# Altium footprint library Lib Marius.PcbLib: 393 footprints (part 1 of 25)
Each footprint in its own frame and in the unit in brackets; x right, y up, seen from the top. Pads: shape width x height; smd on the part's side, far side on the other; paste and mask are expansions set on the pad; w line width, h text height; cw(c..) or ccw(c..) is an arc to the next point about the centre after c.
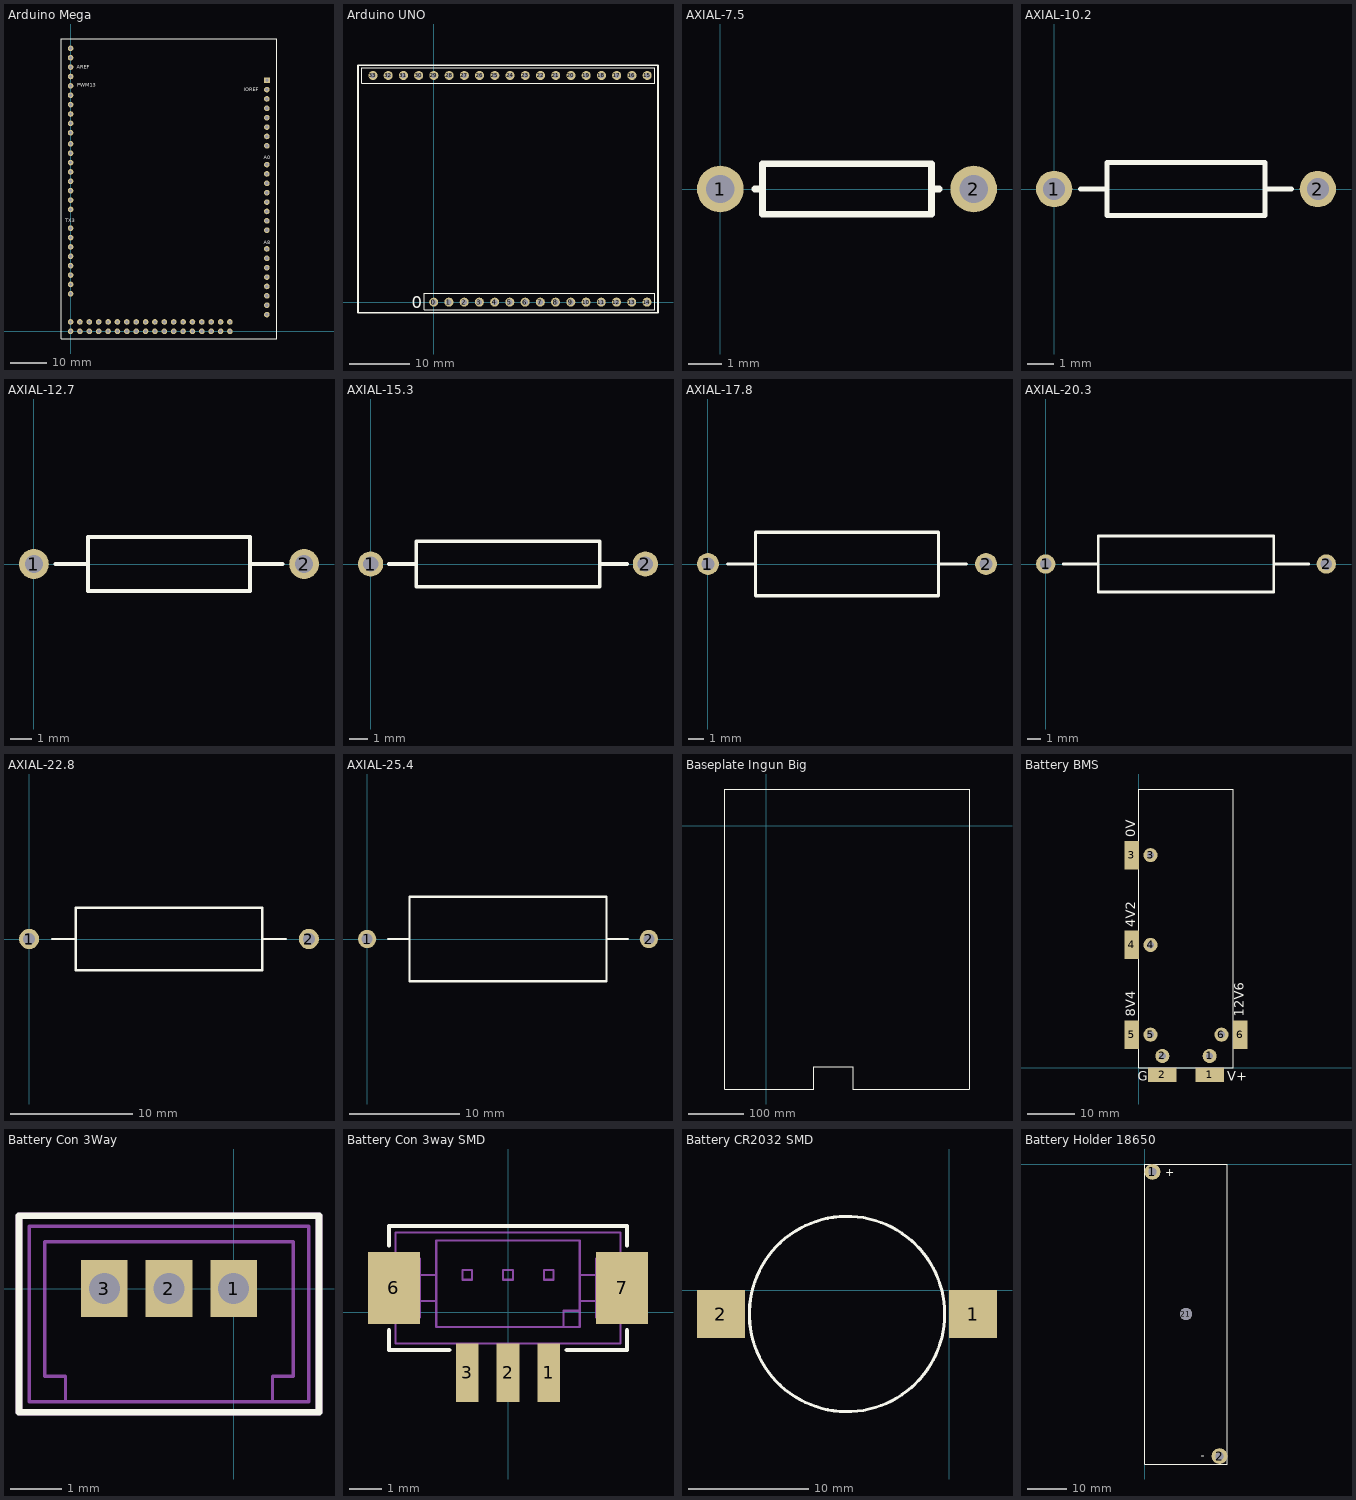
[diagram p0: the footprints below, top view; thin cyan lines are the x and y axes]

## Arduino Mega [mil] "Arduino Mega"
pads (86):
  rect 59.06x59.06 hole 35.43: 0(2095.38,2678.95)
  round 60 hole 35.43: 1(2093.7,2578.74) 2(2093.7,2478.74) 3(2093.7,2378.74) 4(2093.7,2278.74) 5(2093.7,2178.74) 6(2093.7,2078.74) 7(2093.7,1978.74) 8(2093.7,1778.74) 9(2093.7,1678.74) 10(2093.7,1578.74) 11(2093.7,1478.74) 12(2093.7,1378.74) 13(2093.7,1278.74) 14(2093.7,1178.74) 15(2093.7,1078.74) 16(2093.7,878.74) 17(2093.7,778.74) 18(2093.7,678.74) 19(2093.7,578.74) 20(2093.7,478.74) 21(2093.7,378.74) 22(2093.7,278.74) 23(2093.7,178.74) 24(0,400) 25(0,500) 26(0,600) 27(0,700) 28(0,800) 29(0,900) 30(0,1000) 31(0,1100) 32(0,1300) 33(0,1400) 34(0,1500) 35(0,1600) 36(0,1700) 37(0,1800) 38(0,1900) 39(0,2000) 40(0,2118.11) 41(0,2218.11) 42(0,2318.11) 43(0,2418.11) 44(0,2518.11) 45(0,2618.11) 46(0,2718.11) 47(0,2818.11) 48(0,2918.11) 49(0,3018.11) 50(0,100) 51(0,0) 52(100,100) 53(100,0) 54(200,100) 55(200,0) 56(300,100) 57(300,0) 58(400,100) 59(400,0) 60(500,100) 61(500,0) 62(600,100) 63(600,0) 64(700,100) 65(700,0) 66(800,100) 67(800,0) 68(900,100) 69(900,0) 70(1000,100) 71(1000,0) 72(1100,100) 73(1100,0) 74(1200,100) 75(1200,0) 76(1300,100) 77(1300,0) 78(1400,100) 79(1400,0) 80(1500,100) 81(1500,0) 82(1600,100) 83(1600,0) 84(1700,100) 85(1700,0)
Top Overlay:
  lines w10: -100,-81.89 2200,-81.89 2200,3118.11 -100,3118.11 -100,-81.89
  text "TX3" at -55.12,1161.42 h39.37
  text "PWM13" at 70.87,2606.3 h39.37
  text "AREF" at 66.93,2799.21 h39.37
  text "A8" at 2059.06,929.13 h39.37
  text "A0" at 2059.06,1834.65 h39.37
  text "IOREF" at 1846.46,2559.06 h39.37

## Arduino UNO [mm] "Arduino"
pads (34):
  round 1.5 hole 0.9: 0(0,0) 1(2.54,0) 2(5.08,0) 3(7.62,0) 4(10.16,0) 5(12.7,0) 6(15.24,0) 7(17.78,0) 8(20.32,0) 9(22.86,0) 10(25.4,0) 11(27.94,0) 12(30.48,0) 13(33.02,0) 14(35.56,0) 15(35.59,37.79) 16(33.05,37.79) 17(30.51,37.79) 18(27.97,37.79) 19(25.43,37.79) 20(22.89,37.79) 21(20.35,37.79) 22(17.81,37.79) 23(15.27,37.79) 24(12.73,37.79) 25(10.19,37.79) 26(7.65,37.79) 27(5.11,37.79) 28(2.57,37.79) 29(0.03,37.79) 30(-2.51,37.79) 31(-5.05,37.79) 32(-7.59,37.79) 33(-10.13,37.79)
Top Overlay:
  lines w0.2: -1.64,1.44 36.83,1.44 36.83,-1.27 -1.6,-1.27 -1.6,1.27 ; -12.035,36.52 -12.035,39.06 36.86,39.06 36.86,36.52 -12.035,36.52
  lines w0.254: -12.62,-1.76 -12.62,39.48 37.4,39.48 37.4,-1.76 -12.62,-1.76
  text "0" at -3.66,-0.99 h2

## AXIAL-7.5 [mm] "Axial Device, Thru-Hole; 2 Leads; 7.5mm Pin Spacing"
height 1.524
pads (2):
  round 1.4 hole 0.85: 1(0,0) 2(7.62,0)
Top Overlay:
  lines w0.2: 1.041,0 1.27,0 ; 6.579,0 6.35,0 ; 6.35,0 6.35,0.762 1.27,0.762 1.27,-0.762 6.35,-0.762 6.35,0

## AXIAL-10.2 [mm] "Axial Device, Thru-Hole; 2 Leads; 10.2mm Pin Spacing"
height 2.032
pads (2):
  round 1.4 hole 0.85: 1(0,0) 2(10.16,0)
Top Overlay:
  lines w0.2: 1.016,0 2.032,0 ; 8.128,0 9.144,0 ; 2.032,-1.016 2.032,1.016 8.128,1.016 8.128,-1.016 2.032,-1.016

## AXIAL-12.7 [mm] "Axial Device, Thru-Hole; 2 Leads; 12.7mm Pin Spacing"
height 2.54
pads (2):
  round 1.4 hole 0.85: 1(0,0) 2(12.7,0)
Top Overlay:
  lines w0.2: 1.016,0 2.54,0 ; 10.16,0 11.684,0 ; 2.54,-1.27 2.54,1.27 10.16,1.27 10.16,-1.27 2.54,-1.27

## AXIAL-15.3 [mm] "Axial Device, Thru-Hole; 2 Leads; 15.3mm Pin Spacing"
height 2.54
pads (2):
  round 1.4 hole 0.85: 1(0,0) 2(15.24,0)
Top Overlay:
  lines w0.2: 1.016,0 2.54,0 ; 12.7,0 14.224,0 ; 2.54,-1.27 12.7,-1.27 12.7,1.27 2.54,1.27 2.54,-1.27

## AXIAL-17.8 [mm] "Axial Device, Thru-Hole; 2 Leads; 17.8mm Pin Spacing"
height 4.064
pads (2):
  round 1.4 hole 0.85: 1(0,0) 2(17.78,0)
Top Overlay:
  lines w0.2: 1.27,0 3.048,0 ; 14.732,0 16.51,0 ; 3.048,-2.032 3.048,2.032 14.732,2.032 14.732,-2.032 3.048,-2.032

## AXIAL-20.3 [mm] "Axial Device, Thru-Hole; 2 Leads; 20.3mm Pin Spacing"
height 4.064
pads (2):
  round 1.4 hole 0.85: 1(0,0) 2(20.32,0)
Top Overlay:
  lines w0.2: 1.27,0 3.81,0 ; 16.51,0 19.05,0 ; 3.81,-2.032 16.51,-2.032 16.51,2.032 3.81,2.032 3.81,-2.032

## AXIAL-22.8 [mm] "Axial Device, Thru-Hole; 2 Leads; 22.8 mm Pin Spacing"
height 5.08
pads (2):
  round 1.65 hole 1: 1(0,0) 2(22.86,0)
Top Overlay:
  lines w0.2: 1.905,0 3.81,0 ; 19.05,0 20.955,0 ; 3.81,-2.54 3.81,2.54 19.05,2.54 19.05,-2.54 3.81,-2.54

## AXIAL-25.4 [mm] "Axial Device, Thru-Hole; 2 Leads; 25.4 mm Pin Spacing"
height 7.62
pads (2):
  round 1.65 hole 1: 1(0,0) 2(25.4,0)
Top Overlay:
  lines w0.2: 1.905,0 3.81,0 ; 21.59,0 23.495,0 ; 3.81,-3.81 3.81,3.81 21.59,3.81 21.59,-3.81 3.81,-3.81

## Baseplate Ingun Big [mm] "Arduino"
Top Overlay:
  lines w0.3: -74.8,-474.1 85.3,-474.1 85.3,-434.3 155.1,-434.3 155.1,-474.1 365.1,-474.1 365.1,65.8 -74.8,65.8 -74.8,65.6 -74.8,-474.1
Top Solder:
  lines w0.3: 95.3,-434.2 146.8,-434.2
3D body "Base Plate - Ingun Big v7 Template.step": height 0.1, standoff 0, extent -74.9,-474.1 365.1,65.9

## Battery BMS [mm] "Multicell charger board"
height 6
pads (12):
  rect 6x3 smd: 1(15,-1.5) 2(5,-1.5)
  round 3 hole 1.5: 1(15,2.5) 2(5,2.5) 3(2.5,45) 4(2.5,26) 5(2.5,7) 6(17.5,7)
  rect 3x6 smd: 3(-1.5,45) 4(-1.5,26) 5(-1.5,7) 6(21.5,7)
Top Overlay:
  lines w0.254: 0,0 0,59 20,59 20,0 0,0
  text "V+" at 18.754,-2.746 h2
  text "G" at -0.246,-2.746 h2
  text "12V6" at 22.246,10.754 h2
  text "8V4" at -0.754,10.754 h2
  text "4V2" at -0.754,29.754 h2
  text "0V" at -0.754,48.754 h2

## Battery Con 3Way [mm]
pads (3):
  rect 0.9x1.1 hole 0.6 mask+0: 1(0,0) 2(-1.25,0) 3(-2.5,0)
Top Overlay:
  lines w0.127: -4.15,-2.39 -3.45,-2.39 0.95,-2.39 1.65,-2.39 1.65,1.41 -4.15,1.41 -4.15,-2.39
Mechanical 9:
  lines w0.127: -4.15,-2.39 1.65,-2.39 1.65,1.41 -4.15,1.41 -4.15,-2.39
  text ".Designator" at -4.65,-0.825 h0.69
Mechanical 13:
  lines w0.065: -3.25,-2.19 -3.25,-1.69 -3.65,-1.69 -3.65,0.91 1.15,0.91 1.15,-1.69 0.75,-1.69 0.75,-2.19 ; -3.95,-2.19 -3.95,1.21 1.45,1.21 1.45,-2.19 -3.95,-2.19
3D body "DF13P-1-25V-3Way-Leaded.stp": height 4.37, standoff -2.23, extent -3.95,-2.19 1.45,1.21

## Battery Con 3way SMD [mm]
pads (5):
  rect 0.7x1.8 smd mask+0: 1(1.25,-1.85) 2(0,-1.85) 3(-1.25,-1.85)
  rect 1.6x2.2 smd mask+0: 6(-3.5,0.75) 7(3.5,0.75)
Top Overlay:
  lines w0.127: -3.65,-0.55 -3.65,-1.15 -1.8,-1.15 ; -3.65,2.05 -3.65,2.65 3.65,2.65 3.65,2.05 ; 1.8,-1.15 3.65,-1.15 3.65,-0.55
Mechanical 13:
  lines w0.065: -2.2,0.35 -2.7,0.35 -2.7,-0.15 ; -2.2,1.15 -2.7,1.15 -2.7,1.65 ; 2.2,0.35 2.7,0.35 2.7,-0.15 ; 2.2,1.15 2.7,1.15 2.7,1.65 ; -3.45,-0.15 -3.45,-0.95 3.45,-0.95 3.45,-0.15 ; -3.45,-0.15 -2.7,-0.15 ; -3.45,-0.15 -2.7,-0.15 ; -3.45,1.65 -2.7,1.65 ; -3.45,1.65 -2.7,1.65 ; -3.45,1.65 -3.45,2.45 3.45,2.45 3.45,1.65 ; -2.7,-0.15 -2.7,1.65 ; -2.7,-0.15 -2.7,1.65 ; -2.7,-0.15 -4.2,-0.15 -4.2,1.65 -2.7,1.65 ; 2.2,-0.45 1.7,-0.45 1.7,0.05 2.2,0.05 2.2,-0.45 ; 2.2,-0.45 -2.2,-0.45 -2.2,2.2 2.2,2.2 2.2,-0.45 ; 2.7,-0.15 2.7,1.65 ; 2.7,-0.15 2.7,1.65 ; 2.7,-0.15 3.45,-0.15 ; 2.7,-0.15 3.45,-0.15 ; 2.7,-0.15 4.2,-0.15 4.2,1.65 2.7,1.65 ; 2.7,1.65 3.45,1.65 ; 2.7,1.65 3.45,1.65 ; -1.4,-2.45 -1.1,-2.45 -1.1,-0.95 -1.4,-0.95 -1.4,-2.45 ; -1.4,1 -1.1,1 -1.1,1.3 -1.4,1.3 -1.4,1 ; -0.15,-2.45 0.15,-2.45 0.15,-0.95 -0.15,-0.95 -0.15,-2.45 ; -0.15,1 0.15,1 0.15,1.3 -0.15,1.3 -0.15,1 ; 1.1,-2.45 1.1,-0.95 1.4,-0.95 1.4,-2.45 1.1,-2.45 ; 1.1,1 1.4,1 1.4,1.3 1.1,1.3 1.1,1
  text ".Designator" at -4.35,0.475 h0.87
3D body "DF13-3P-1-25V.stp": height 4.77, standoff -0.83, extent -4.2,-2.45 4.2,2.45

## Battery CR2032 SMD [mm] "Axial Device, Thru-Hole; 2 Leads; 7.5mm Pin Spacing"
height 1.524
pads (2):
  rect 4x4 smd: 1(2,-2) 2(-19,-2)
Top Overlay:
  circle w0.254: c-8.5,-2 r8.139
3D body: height 0, standoff -0.4, extent -8.5,-4 3.5,0
3D body: height 0, standoff -0.4, extent -21,-4 -17,0
3D body: height 3.6, standoff 3.2, extent -17,-4 -4,0
3D body: height 3.6, standoff -0.4, extent -17.5,-4 -17,0
3D body "Battery CR1632.STEP": height 3.2, standoff 0, extent -16.2,-9.8 -0.2,6.2

## Battery Holder 18650 [mm] "Single 18650 Lithium battery holder"
height 1.524
pads (3):
  round 4 hole 2: 1(2,-2) 2(19,-74)
  round 3 hole 3: 21(10.5,-38)
Top Overlay:
  lines w0.254: 0,-76 0,0 21,0 21,-76 0,-76
  text "+" at 5.254,-3.079 h2
  text "-" at 14.254,-74.746 h2
3D body "Batter Holder 18620.step": height 18, standoff -3, extent 0,-76.2 21,-0.2